# Altium integrated library NSC Logic Translator.IntLib: 51 symbols (part 1 of 2)
Pins are listed as number, name and electrical type; pins without a type are passive.

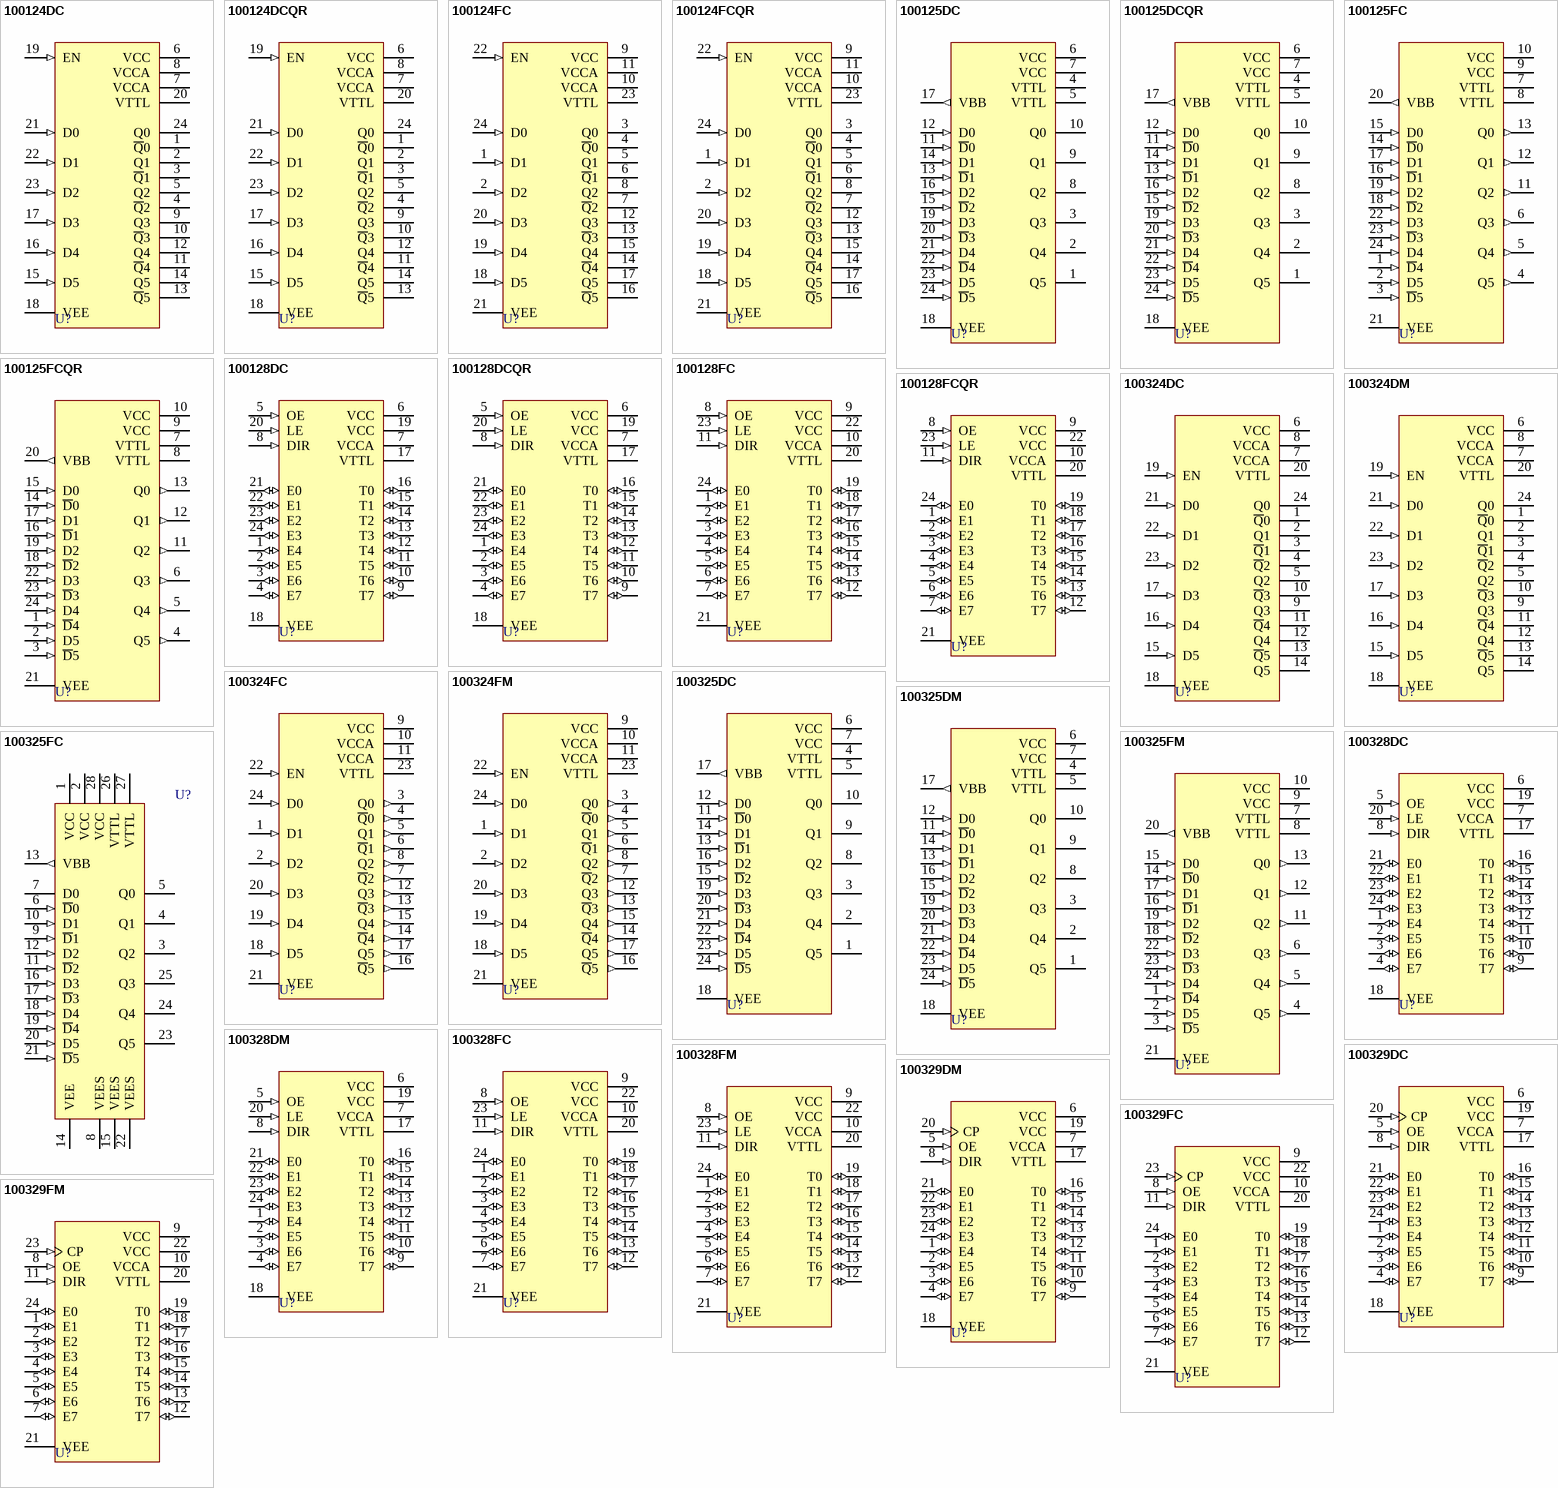
[diagram p0: symbols 100124DC to 100329FM]

## 100124DC
designator U?
Hex TTL-to-ECL Translator; Published: 15-Apr-2002; LatestRevisionDate: 06-Jun-2005; LatestRevisionNote: Stylized 3D Model Added.; DatasheetVersion: 1990; PackageVersion: 2000; PackageReference: J24E; Publisher: Altium Limited; PackageDescription: DIP; 24 Leads; Row Spacing 10.16 mm; Pitch 2.54 mm; ComponentLink1Description: Manufacturer Link; ComponentLink1URL: http://www.national.com/
footprint J24E (DIP; 24 Leads; Row Spacing 10.16 mm; Pitch 2.54 mm)
3D model J24E (DIP; 24 Leads; Row Spacing 10.16 mm; Pitch 2.54 mm)
pins: 1 ~{Q}0 (oe), 2 Q1 (oe), 3 ~{Q}1 (oe), 4 ~{Q}2 (oe), 5 Q2 (oe), 6 VCC (power), 7 VCCA (power), 8 VCCA (power), 9 Q3 (oe), 10 ~{Q}3 (oe), 11 ~{Q}4 (oe), 12 Q4 (oe), 13 ~{Q}5 (oe), 14 Q5 (oe), 15 D5 (in), 16 D4 (in), 17 D3 (in), 18 VEE (power), 19 EN (in), 20 VTTL (power), 21 D0 (in), 22 D1 (in), 23 D2 (in), 24 Q0 (oe)

## 100124DCQR
designator U?
Hex TTL-to-ECL Translator; Published: 15-Apr-2002; LatestRevisionDate: 06-Jun-2005; LatestRevisionNote: Stylized 3D Model Added.; DatasheetVersion: 1990; PackageVersion: 2000; PackageReference: J24E; Publisher: Altium Limited; PackageDescription: DIP; 24 Leads; Row Spacing 10.16 mm; Pitch 2.54 mm; ComponentLink1Description: Manufacturer Link; ComponentLink1URL: http://www.national.com/
footprint J24E (DIP; 24 Leads; Row Spacing 10.16 mm; Pitch 2.54 mm)
3D model J24E (DIP; 24 Leads; Row Spacing 10.16 mm; Pitch 2.54 mm)
pins: 1 ~{Q}0 (oe), 2 Q1 (oe), 3 ~{Q}1 (oe), 4 ~{Q}2 (oe), 5 Q2 (oe), 6 VCC (power), 7 VCCA (power), 8 VCCA (power), 9 Q3 (oe), 10 ~{Q}3 (oe), 11 ~{Q}4 (oe), 12 Q4 (oe), 13 ~{Q}5 (oe), 14 Q5 (oe), 15 D5 (in), 16 D4 (in), 17 D3 (in), 18 VEE (power), 19 EN (in), 20 VTTL (power), 21 D0 (in), 22 D1 (in), 23 D2 (in), 24 Q0 (oe)

## 100124FC
designator U?
Hex TTL-to-ECL Translator; Published: 15-Apr-2002; LatestRevisionDate: 13-Apr-2006; LatestRevisionNote: IPC-7351 Footprint Added.; DatasheetVersion: 1990; PackageVersion: Aug-1990; PackageReference: W24B; Publisher: Altium Limited; PackageDescription: 100-Pin Ceramic Quad Flat Pack 1.27 mm Pitch; ComponentLink1Description: Manufacturer Link; ComponentLink1URL: http://www.national.com/
footprint W24B_N (CQFP, 24-Leads, Body 10x10mm; Pitch 1.27mm, Gullwing Leadform, IPC Medium Density)
footprint W24B_L (CQFP, 24-Leads, Body 10x10mm; Pitch 1.27mm, Gullwing Leadform, IPC High Density)
footprint W24B_M (CQFP, 24-Leads, Body 10x10mm; Pitch 1.27mm, Gullwing Leadform, IPC Low Density)
3D model 100124-W24B (100-Pin Ceramic Quad Flat Pack 1.27 mm Pitch)
pins: 1 D1 (in), 2 D2 (in), 3 Q0 (oe), 4 ~{Q}0 (oe), 5 Q1 (oe), 6 ~{Q}1 (oe), 7 ~{Q}2 (oe), 8 Q2 (oe), 9 VCC (power), 10 VCCA (power), 11 VCCA (power), 12 Q3 (oe), 13 ~{Q}3 (oe), 14 ~{Q}4 (oe), 15 Q4 (oe), 16 ~{Q}5 (oe), 17 Q5 (oe), 18 D5 (in), 19 D4 (in), 20 D3 (in), 21 VEE (power), 22 EN (in), 23 VTTL (power), 24 D0 (in)

## 100124FCQR
designator U?
Hex TTL-to-ECL Translator; Published: 15-Apr-2002; LatestRevisionDate: 13-Apr-2006; LatestRevisionNote: IPC-7351 Footprint Added.; DatasheetVersion: 1990; PackageVersion: Aug-1990; PackageReference: W24B; Publisher: Altium Limited; PackageDescription: 100-Pin Ceramic Quad Flat Pack 1.27 mm Pitch; ComponentLink1Description: Manufacturer Link; ComponentLink1URL: http://www.national.com/
footprint W24B_N (CQFP, 24-Leads, Body 10x10mm; Pitch 1.27mm, Gullwing Leadform, IPC Medium Density)
footprint W24B_L (CQFP, 24-Leads, Body 10x10mm; Pitch 1.27mm, Gullwing Leadform, IPC High Density)
footprint W24B_M (CQFP, 24-Leads, Body 10x10mm; Pitch 1.27mm, Gullwing Leadform, IPC Low Density)
3D model 100124-W24B (100-Pin Ceramic Quad Flat Pack 1.27 mm Pitch)
pins: 1 D1 (in), 2 D2 (in), 3 Q0 (oe), 4 ~{Q}0 (oe), 5 Q1 (oe), 6 ~{Q}1 (oe), 7 ~{Q}2 (oe), 8 Q2 (oe), 9 VCC (power), 10 VCCA (power), 11 VCCA (power), 12 Q3 (oe), 13 ~{Q}3 (oe), 14 ~{Q}4 (oe), 15 Q4 (oe), 16 ~{Q}5 (oe), 17 Q5 (oe), 18 D5 (in), 19 D4 (in), 20 D3 (in), 21 VEE (power), 22 EN (in), 23 VTTL (power), 24 D0 (in)

## 100125DC
designator U?
Hex ECL-to-TTL  Translator; Published: 15-Apr-2002; LatestRevisionDate: 06-Jun-2005; LatestRevisionNote: Stylized 3D Model Added.; DatasheetVersion: 1990; PackageVersion: 2000; PackageReference: J24E; Publisher: Altium Limited; PackageDescription: DIP; 24 Leads; Row Spacing 10.16 mm; Pitch 2.54 mm; ComponentLink1Description: Manufacturer Link; ComponentLink1URL: http://www.national.com/
footprint J24E (DIP; 24 Leads; Row Spacing 10.16 mm; Pitch 2.54 mm)
3D model J24E (DIP; 24 Leads; Row Spacing 10.16 mm; Pitch 2.54 mm)
pins: 1 Q5 (oe), 2 Q4 (oe), 3 Q3 (oe), 4 VTTL (power), 5 VTTL (power), 6 VCC (power), 7 VCC (power), 8 Q2 (oe), 9 Q1 (oe), 10 Q0 (oe), 11 ~{D}0 (in), 12 D0 (in), 13 ~{D}1 (in), 14 D1 (in), 15 ~{D}2 (in), 16 D2 (in), 17 VBB (out), 18 VEE (power), 19 D3 (in), 20 ~{D}3 (in), 21 D4 (in), 22 ~{D}4 (in), 23 D5 (in), 24 ~{D}5 (in)

## 100125DCQR
designator U?
Hex ECL-to-TTL  Translator; Published: 15-Apr-2002; LatestRevisionDate: 06-Jun-2005; LatestRevisionNote: Stylized 3D Model Added.; DatasheetVersion: 1990; PackageVersion: 2000; PackageReference: J24E; Publisher: Altium Limited; PackageDescription: DIP; 24 Leads; Row Spacing 10.16 mm; Pitch 2.54 mm; ComponentLink1Description: Manufacturer Link; ComponentLink1URL: http://www.national.com/
footprint J24E (DIP; 24 Leads; Row Spacing 10.16 mm; Pitch 2.54 mm)
3D model J24E (DIP; 24 Leads; Row Spacing 10.16 mm; Pitch 2.54 mm)
pins: 1 Q5 (oe), 2 Q4 (oe), 3 Q3 (oe), 4 VTTL (power), 5 VTTL (power), 6 VCC (power), 7 VCC (power), 8 Q2 (oe), 9 Q1 (oe), 10 Q0 (oe), 11 ~{D}0 (in), 12 D0 (in), 13 ~{D}1 (in), 14 D1 (in), 15 ~{D}2 (in), 16 D2 (in), 17 VBB (out), 18 VEE (power), 19 D3 (in), 20 ~{D}3 (in), 21 D4 (in), 22 ~{D}4 (in), 23 D5 (in), 24 ~{D}5 (in)

## 100125FC
designator U?
Hex ECL-to-TTL  Translator; Published: 15-Apr-2002; LatestRevisionDate: 13-Apr-2006; LatestRevisionNote: IPC-7351 Footprint Added.; DatasheetVersion: 1990; PackageVersion: Aug-1990; PackageReference: W24B; Publisher: Altium Limited; PackageDescription: 100-Pin Ceramic Quad Flat Pack 1.27 mm Pitch; ComponentLink1Description: Manufacturer Link; ComponentLink1URL: http://www.national.com/
footprint W24B_N (CQFP, 24-Leads, Body 10x10mm; Pitch 1.27mm, Gullwing Leadform, IPC Medium Density)
footprint W24B_L (CQFP, 24-Leads, Body 10x10mm; Pitch 1.27mm, Gullwing Leadform, IPC High Density)
footprint W24B_M (CQFP, 24-Leads, Body 10x10mm; Pitch 1.27mm, Gullwing Leadform, IPC Low Density)
3D model 100125-W24B (100-Pin Ceramic Quad Flat Pack 1.27 mm Pitch)
pins: 1 ~{D}4 (in), 2 D5 (in), 3 ~{D}5 (in), 4 Q5 (out), 5 Q4 (out), 6 Q3 (out), 7 VTTL (power), 8 VTTL (power), 9 VCC (power), 10 VCC (power), 11 Q2 (out), 12 Q1 (out), 13 Q0 (out), 14 ~{D}0 (in), 15 D0 (in), 16 ~{D}1 (in), 17 D1 (in), 18 ~{D}2 (in), 19 D2 (in), 20 VBB (out), 21 VEE (power), 22 D3 (in), 23 ~{D}3 (in), 24 D4 (in)

## 100125FCQR
designator U?
Hex ECL-to-TTL  Translator; Published: 15-Apr-2002; LatestRevisionDate: 13-Apr-2006; LatestRevisionNote: IPC-7351 Footprint Added.; DatasheetVersion: 1990; PackageVersion: Aug-1990; PackageReference: W24B; Publisher: Altium Limited; PackageDescription: 100-Pin Ceramic Quad Flat Pack 1.27 mm Pitch; ComponentLink1Description: Manufacturer Link; ComponentLink1URL: http://www.national.com/
footprint W24B_N (CQFP, 24-Leads, Body 10x10mm; Pitch 1.27mm, Gullwing Leadform, IPC Medium Density)
footprint W24B_L (CQFP, 24-Leads, Body 10x10mm; Pitch 1.27mm, Gullwing Leadform, IPC High Density)
footprint W24B_M (CQFP, 24-Leads, Body 10x10mm; Pitch 1.27mm, Gullwing Leadform, IPC Low Density)
3D model 100125-W24B (100-Pin Ceramic Quad Flat Pack 1.27 mm Pitch)
pins: 1 ~{D}4 (in), 2 D5 (in), 3 ~{D}5 (in), 4 Q5 (out), 5 Q4 (out), 6 Q3 (out), 7 VTTL (power), 8 VTTL (power), 9 VCC (power), 10 VCC (power), 11 Q2 (out), 12 Q1 (out), 13 Q0 (out), 14 ~{D}0 (in), 15 D0 (in), 16 ~{D}1 (in), 17 D1 (in), 18 ~{D}2 (in), 19 D2 (in), 20 VBB (out), 21 VEE (power), 22 D3 (in), 23 ~{D}3 (in), 24 D4 (in)

## 100128DC
designator U?
ECL/TTL Bi-Directional Translator; Published: 15-Apr-2002; LatestRevisionDate: 06-Jun-2005; LatestRevisionNote: Stylized 3D Model Added.; DatasheetVersion: 1990; PackageVersion: 2000; PackageReference: J24E; Publisher: Altium Limited; PackageDescription: DIP; 24 Leads; Row Spacing 10.16 mm; Pitch 2.54 mm; ComponentLink1Description: Manufacturer Link; ComponentLink1URL: http://www.national.com/
footprint J24E (DIP; 24 Leads; Row Spacing 10.16 mm; Pitch 2.54 mm)
3D model J24E (DIP; 24 Leads; Row Spacing 10.16 mm; Pitch 2.54 mm)
pins: 1 E4 (io), 2 E5 (io), 3 E6 (io), 4 E7 (io), 5 OE (in), 6 VCC (power), 7 VCCA (power), 8 DIR (in), 9 T7 (io), 10 T6 (io), 11 T5 (io), 12 T4 (io), 13 T3 (io), 14 T2 (io), 15 T1 (io), 16 T0 (io), 17 VTTL (power), 18 VEE (power), 19 VCC (power), 20 LE (in), 21 E0 (io), 22 E1 (io), 23 E2 (io), 24 E3 (io)

## 100128DCQR
designator U?
ECL/TTL Bi-Directional Translator; Published: 15-Apr-2002; LatestRevisionDate: 06-Jun-2005; LatestRevisionNote: Stylized 3D Model Added.; DatasheetVersion: 1990; PackageVersion: 2000; PackageReference: J24E; Publisher: Altium Limited; PackageDescription: DIP; 24 Leads; Row Spacing 10.16 mm; Pitch 2.54 mm; ComponentLink1Description: Manufacturer Link; ComponentLink1URL: http://www.national.com/
footprint J24E (DIP; 24 Leads; Row Spacing 10.16 mm; Pitch 2.54 mm)
3D model J24E (DIP; 24 Leads; Row Spacing 10.16 mm; Pitch 2.54 mm)
pins: 1 E4 (io), 2 E5 (io), 3 E6 (io), 4 E7 (io), 5 OE (in), 6 VCC (power), 7 VCCA (power), 8 DIR (in), 9 T7 (io), 10 T6 (io), 11 T5 (io), 12 T4 (io), 13 T3 (io), 14 T2 (io), 15 T1 (io), 16 T0 (io), 17 VTTL (power), 18 VEE (power), 19 VCC (power), 20 LE (in), 21 E0 (io), 22 E1 (io), 23 E2 (io), 24 E3 (io)

## 100128FC
designator U?
ECL/TTL Bi-Directional Translator; Published: 15-Apr-2002; LatestRevisionDate: 13-Apr-2006; LatestRevisionNote: IPC-7351 Footprint Added.; DatasheetVersion: 1990; PackageVersion: Aug-1990; PackageReference: W24B; Publisher: Altium Limited; PackageDescription: 100-Pin Ceramic Quad Flat Pack 1.27 mm Pitch; ComponentLink1Description: Manufacturer Link; ComponentLink1URL: http://www.national.com/
footprint W24B_N (CQFP, 24-Leads, Body 10x10mm; Pitch 1.27mm, Gullwing Leadform, IPC Medium Density)
footprint W24B_L (CQFP, 24-Leads, Body 10x10mm; Pitch 1.27mm, Gullwing Leadform, IPC High Density)
footprint W24B_M (CQFP, 24-Leads, Body 10x10mm; Pitch 1.27mm, Gullwing Leadform, IPC Low Density)
3D model 100128-W24B (100-Pin Ceramic Quad Flat Pack 1.27 mm Pitch)
pins: 1 E1 (io), 2 E2 (io), 3 E3 (io), 4 E4 (io), 5 E5 (io), 6 E6 (io), 7 E7 (io), 8 OE (in), 9 VCC (power), 10 VCCA (power), 11 DIR (in), 12 T7 (io), 13 T6 (io), 14 T5 (io), 15 T4 (io), 16 T3 (io), 17 T2 (io), 18 T1 (io), 19 T0 (io), 20 VTTL (power), 21 VEE (power), 22 VCC (power), 23 LE (in), 24 E0 (io)

## 100128FCQR
designator U?
ECL/TTL Bi-Directional Translator; Published: 15-Apr-2002; LatestRevisionDate: 13-Apr-2006; LatestRevisionNote: IPC-7351 Footprint Added.; DatasheetVersion: 1990; PackageVersion: Aug-1990; PackageReference: W24B; Publisher: Altium Limited; PackageDescription: 100-Pin Ceramic Quad Flat Pack 1.27 mm Pitch; ComponentLink1Description: Manufacturer Link; ComponentLink1URL: http://www.national.com/
footprint W24B_N (CQFP, 24-Leads, Body 10x10mm; Pitch 1.27mm, Gullwing Leadform, IPC Medium Density)
footprint W24B_L (CQFP, 24-Leads, Body 10x10mm; Pitch 1.27mm, Gullwing Leadform, IPC High Density)
footprint W24B_M (CQFP, 24-Leads, Body 10x10mm; Pitch 1.27mm, Gullwing Leadform, IPC Low Density)
3D model 100128-W24B (100-Pin Ceramic Quad Flat Pack 1.27 mm Pitch)
pins: 1 E1 (io), 2 E2 (io), 3 E3 (io), 4 E4 (io), 5 E5 (io), 6 E6 (io), 7 E7 (io), 8 OE (in), 9 VCC (power), 10 VCCA (power), 11 DIR (in), 12 T7 (io), 13 T6 (io), 14 T5 (io), 15 T4 (io), 16 T3 (io), 17 T2 (io), 18 T1 (io), 19 T0 (io), 20 VTTL (power), 21 VEE (power), 22 VCC (power), 23 LE (in), 24 E0 (io)

## 100324DC
designator U?
Low Power Hex TTL-to-ECL Translator; Published: 15-Apr-2002; LatestRevisionDate: 06-Jun-2005; LatestRevisionNote: Stylized 3D Model Added.; DatasheetVersion: Jul-1989; PackageVersion: 2000; PackageReference: J24E; Publisher: Altium Limited; PackageDescription: DIP; 24 Leads; Row Spacing 10.16 mm; Pitch 2.54 mm; ComponentLink1Description: Manufacturer Link; ComponentLink1URL: http://www.national.com/; ComponentLink2Description: Datasheet; ComponentLink2URL: http://www.national.com/ds.cgi/10/100324.pdf
footprint J24E (DIP; 24 Leads; Row Spacing 10.16 mm; Pitch 2.54 mm)
3D model J24E (DIP; 24 Leads; Row Spacing 10.16 mm; Pitch 2.54 mm)
pins: 1 ~{Q}0 (oe), 2 Q1 (oe), 3 ~{Q}1 (oe), 4 ~{Q}2 (oe), 5 Q2 (oe), 6 VCC (power), 7 VCCA (power), 8 VCCA (power), 9 Q3 (oe), 10 ~{Q}3 (oe), 11 ~{Q}4 (oe), 12 Q4 (oe), 13 ~{Q}5 (oe), 14 Q5 (oe), 15 D5 (in), 16 D4 (in), 17 D3 (in), 18 VEE (power), 19 EN (in), 20 VTTL (power), 21 D0 (in), 22 D1 (in), 23 D2 (in), 24 Q0 (oe)

## 100324DM
designator U?
Low Power Hex TTL-to-ECL Translator; Published: 15-Apr-2002; LatestRevisionDate: 06-Jun-2005; LatestRevisionNote: Stylized 3D Model Added.; DatasheetVersion: Jul-1989; PackageVersion: 2000; PackageReference: J24E; Publisher: Altium Limited; PackageDescription: DIP; 24 Leads; Row Spacing 10.16 mm; Pitch 2.54 mm; ComponentLink1Description: Manufacturer Link; ComponentLink1URL: http://www.national.com/; ComponentLink2Description: Datasheet; ComponentLink2URL: http://www.national.com/ds.cgi/10/100324.pdf
footprint J24E (DIP; 24 Leads; Row Spacing 10.16 mm; Pitch 2.54 mm)
3D model J24E (DIP; 24 Leads; Row Spacing 10.16 mm; Pitch 2.54 mm)
pins: 1 ~{Q}0 (oe), 2 Q1 (oe), 3 ~{Q}1 (oe), 4 ~{Q}2 (oe), 5 Q2 (oe), 6 VCC (power), 7 VCCA (power), 8 VCCA (power), 9 Q3 (oe), 10 ~{Q}3 (oe), 11 ~{Q}4 (oe), 12 Q4 (oe), 13 ~{Q}5 (oe), 14 Q5 (oe), 15 D5 (in), 16 D4 (in), 17 D3 (in), 18 VEE (power), 19 EN (in), 20 VTTL (power), 21 D0 (in), 22 D1 (in), 23 D2 (in), 24 Q0 (oe)

## 100324FC
designator U?
Low Power Hex TTL-to-ECL Translator; ComponentAvailability: Obsolete; Published: 15-Apr-2002; LatestRevisionDate: 13-Apr-2006; LatestRevisionNote: IPC-7351 Footprint Added.; DatasheetVersion: Jul-1989; PackageVersion: Aug-1990; PackageReference: W24B; Publisher: Altium Limited; PackageDescription: 100-Pin Ceramic Quad Flat Pack 1.27 mm Pitch; ComponentLink1Description: Manufacturer Link; ComponentLink1URL: http://www.national.com/; ComponentLink2Description: Datasheet; ComponentLink2URL: http://www.national.com/ds.cgi/10/100324.pdf; ComponentLink3Description: Discontinuation Notice; ComponentLink3URL: http://www.national.com/obs/obsolescence.txt
footprint W24B_N (CQFP, 24-Leads, Body 10x10mm; Pitch 1.27mm, Gullwing Leadform, IPC Medium Density)
footprint W24B_L (CQFP, 24-Leads, Body 10x10mm; Pitch 1.27mm, Gullwing Leadform, IPC High Density)
footprint W24B_M (CQFP, 24-Leads, Body 10x10mm; Pitch 1.27mm, Gullwing Leadform, IPC Low Density)
3D model 100324-W24B (100-Pin Ceramic Quad Flat Pack 1.27 mm Pitch)
pins: 1 D1 (in), 2 D2 (in), 3 Q0 (out), 4 ~{Q}0 (out), 5 Q1 (out), 6 ~{Q}1 (out), 7 ~{Q}2 (out), 8 Q2 (out), 9 VCC (power), 10 VCCA (power), 11 VCCA (power), 12 Q3 (out), 13 ~{Q}3 (out), 14 ~{Q}4 (out), 15 Q4 (out), 16 ~{Q}5 (out), 17 Q5 (out), 18 D5 (in), 19 D4 (in), 20 D3 (in), 21 VEE (power), 22 EN (in), 23 VTTL (power), 24 D0 (in)

## 100324FM
designator U?
Low Power Hex TTL-to-ECL Translator; Published: 15-Apr-2002; LatestRevisionDate: 13-Apr-2006; LatestRevisionNote: IPC-7351 Footprint Added.; DatasheetVersion: Jul-1989; PackageVersion: Aug-1990; PackageReference: W24B; Publisher: Altium Limited; PackageDescription: 100-Pin Ceramic Quad Flat Pack 1.27 mm Pitch; ComponentLink1Description: Manufacturer Link; ComponentLink1URL: http://www.national.com/; ComponentLink2Description: Datasheet; ComponentLink2URL: http://www.national.com/ds.cgi/10/100324.pdf
footprint W24B_N (CQFP, 24-Leads, Body 10x10mm; Pitch 1.27mm, Gullwing Leadform, IPC Medium Density)
footprint W24B_L (CQFP, 24-Leads, Body 10x10mm; Pitch 1.27mm, Gullwing Leadform, IPC High Density)
footprint W24B_M (CQFP, 24-Leads, Body 10x10mm; Pitch 1.27mm, Gullwing Leadform, IPC Low Density)
3D model 100324-W24B (100-Pin Ceramic Quad Flat Pack 1.27 mm Pitch)
pins: 1 D1 (in), 2 D2 (in), 3 Q0 (out), 4 ~{Q}0 (out), 5 Q1 (out), 6 ~{Q}1 (out), 7 ~{Q}2 (out), 8 Q2 (out), 9 VCC (power), 10 VCCA (power), 11 VCCA (power), 12 Q3 (out), 13 ~{Q}3 (out), 14 ~{Q}4 (out), 15 Q4 (out), 16 ~{Q}5 (out), 17 Q5 (out), 18 D5 (in), 19 D4 (in), 20 D3 (in), 21 VEE (power), 22 EN (in), 23 VTTL (power), 24 D0 (in)

## 100325DC
designator U?
Low Power Hex ECL-to-TTL Translator; Published: 15-Apr-2002; LatestRevisionDate: 06-Jun-2005; LatestRevisionNote: Stylized 3D Model Added.; DatasheetVersion: Jul-1989; PackageVersion: 2000; PackageReference: J24E; Publisher: Altium Limited; PackageDescription: DIP; 24 Leads; Row Spacing 10.16 mm; Pitch 2.54 mm; ComponentLink1Description: Manufacturer Link; ComponentLink1URL: http://www.national.com/; ComponentLink2Description: Datasheet; ComponentLink2URL: http://www.national.com/ds.cgi/10/100325.pdf
footprint J24E (DIP; 24 Leads; Row Spacing 10.16 mm; Pitch 2.54 mm)
3D model J24E (DIP; 24 Leads; Row Spacing 10.16 mm; Pitch 2.54 mm)
pins: 1 Q5 (oe), 2 Q4 (oe), 3 Q3 (oe), 4 VTTL (power), 5 VTTL (power), 6 VCC (power), 7 VCC (power), 8 Q2 (oe), 9 Q1 (oe), 10 Q0 (oe), 11 ~{D}0 (in), 12 D0 (in), 13 ~{D}1 (in), 14 D1 (in), 15 ~{D}2 (in), 16 D2 (in), 17 VBB (out), 18 VEE (power), 19 D3 (in), 20 ~{D}3 (in), 21 D4 (in), 22 ~{D}4 (in), 23 D5 (in), 24 ~{D}5 (in)

## 100325DM
designator U?
Low Power Hex ECL-to-TTL Translator; Published: 15-Apr-2002; LatestRevisionDate: 06-Jun-2005; LatestRevisionNote: Stylized 3D Model Added.; DatasheetVersion: Jul-1989; PackageVersion: 2000; PackageReference: J24E; Publisher: Altium Limited; PackageDescription: DIP; 24 Leads; Row Spacing 10.16 mm; Pitch 2.54 mm; ComponentLink1Description: Manufacturer Link; ComponentLink1URL: http://www.national.com/; ComponentLink2Description: Datasheet; ComponentLink2URL: http://www.national.com/ds.cgi/10/100325.pdf
footprint J24E (DIP; 24 Leads; Row Spacing 10.16 mm; Pitch 2.54 mm)
3D model J24E (DIP; 24 Leads; Row Spacing 10.16 mm; Pitch 2.54 mm)
pins: 1 Q5 (oe), 2 Q4 (oe), 3 Q3 (oe), 4 VTTL (power), 5 VTTL (power), 6 VCC (power), 7 VCC (power), 8 Q2 (oe), 9 Q1 (oe), 10 Q0 (oe), 11 ~{D}0 (in), 12 D0 (in), 13 ~{D}1 (in), 14 D1 (in), 15 ~{D}2 (in), 16 D2 (in), 17 VBB (out), 18 VEE (power), 19 D3 (in), 20 ~{D}3 (in), 21 D4 (in), 22 ~{D}4 (in), 23 D5 (in), 24 ~{D}5 (in)

## 100325FC
designator U?
Low Power Hex ECL-to-TTL Translator; ComponentAvailability: Obsolete; Published: 15-Apr-2002; LatestRevisionDate: 13-Apr-2006; LatestRevisionNote: IPC-7351 Footprint Added.; DatasheetVersion: Jul-1989; PackageVersion: 2000; PackageReference: V28A; Publisher: Altium Limited; PackageDescription: 28-Pin Leaded Chip Carrier 1.27 mm Pitch; Code_IPC: PLCC-28; ComponentLink1Description: Manufacturer Link; ComponentLink1URL: http://www.national.com/; ComponentLink2Description: Datasheet; ComponentLink2URL: http://www.national.com/ds.cgi/10/100325.pdf; ComponentLink3Description: Discontinuation Notice; ComponentLink3URL: http://www.national.com/obs/obsolescence.txt
footprint V28A_N (Leaded Chip Carrier, 28-Leads, Body 11.5x11.5mm, Pitch 1.27mm, IPC Medium Density)
footprint V28A_L (Leaded Chip Carrier, 28-Leads, Body 11.5x11.5mm, Pitch 1.27mm, IPC High Density)
footprint V28A_M (Leaded Chip Carrier, 28-Leads, Body 11.5x11.5mm, Pitch 1.27mm, IPC Low Density)
3D model 100325-V28A (28-Pin Leaded Chip Carrier 1.27 mm Pitch)
pins: 1 VCC (power), 2 VCC (power), 3 Q2 (oe), 4 Q1 (oe), 5 Q0 (oe), 6 ~{D}0 (in), 7 D0 (power), 8 VEES (power), 9 ~{D}1 (in), 10 D1 (in), 11 ~{D}2 (in), 12 D2 (in), 13 VBB (out), 14 VEE (power), 15 VEES (power), 16 D3 (in), 17 ~{D}3 (in), 18 D4 (in), 19 ~{D}4 (in), 20 D5 (in), 21 ~{D}5 (in), 22 VEES (power), 23 Q5 (oe), 24 Q4 (oe), 25 Q3 (oe), 26 VTTL (power), 27 VTTL (power), 28 VCC (power)

## 100325FM
designator U?
Low Power Hex ECL-to-TTL Translator; Published: 15-Apr-2002; LatestRevisionDate: 13-Apr-2006; LatestRevisionNote: IPC-7351 Footprint Added.; DatasheetVersion: Jul-1989; PackageVersion: Aug-1990; PackageReference: W24B; Publisher: Altium Limited; PackageDescription: 100-Pin Ceramic Quad Flat Pack 1.27 mm Pitch; ComponentLink1Description: Manufacturer Link; ComponentLink1URL: http://www.national.com/; ComponentLink2Description: Datasheet; ComponentLink2URL: http://www.national.com/ds.cgi/10/100325.pdf
footprint W24B_N (CQFP, 24-Leads, Body 10x10mm; Pitch 1.27mm, Gullwing Leadform, IPC Medium Density)
footprint W24B_L (CQFP, 24-Leads, Body 10x10mm; Pitch 1.27mm, Gullwing Leadform, IPC High Density)
footprint W24B_M (CQFP, 24-Leads, Body 10x10mm; Pitch 1.27mm, Gullwing Leadform, IPC Low Density)
3D model 100325-W24B (100-Pin Ceramic Quad Flat Pack 1.27 mm Pitch)
pins: 1 ~{D}4 (in), 2 D5 (in), 3 ~{D}5 (in), 4 Q5 (out), 5 Q4 (out), 6 Q3 (out), 7 VTTL (power), 8 VTTL (power), 9 VCC (power), 10 VCC (power), 11 Q2 (out), 12 Q1 (out), 13 Q0 (out), 14 ~{D}0 (in), 15 D0 (in), 16 ~{D}1 (in), 17 D1 (in), 18 ~{D}2 (in), 19 D2 (in), 20 VBB (out), 21 VEE (power), 22 D3 (in), 23 ~{D}3 (in), 24 D4 (in)

## 100328DC
designator U?
Low Power Octal ECL/TTL BI-Directional Translator with Latch; Published: 15-Apr-2002; LatestRevisionDate: 06-Jun-2005; LatestRevisionNote: Stylized 3D Model Added.; DatasheetVersion: Aug-1990; PackageVersion: 2000; PackageReference: J24E; Publisher: Altium Limited; PackageDescription: DIP; 24 Leads; Row Spacing 10.16 mm; Pitch 2.54 mm; ComponentLink1Description: Manufacturer Link; ComponentLink1URL: http://www.national.com/; ComponentLink2Description: Datasheet; ComponentLink2URL: http://www.national.com/ds.cgi/10/100328.pdf
footprint J24E (DIP; 24 Leads; Row Spacing 10.16 mm; Pitch 2.54 mm)
3D model J24E (DIP; 24 Leads; Row Spacing 10.16 mm; Pitch 2.54 mm)
pins: 1 E4 (io), 2 E5 (io), 3 E6 (io), 4 E7 (io), 5 OE (in), 6 VCC (power), 7 VCCA (power), 8 DIR (in), 9 T7 (io), 10 T6 (io), 11 T5 (io), 12 T4 (io), 13 T3 (io), 14 T2 (io), 15 T1 (io), 16 T0 (io), 17 VTTL (power), 18 VEE (power), 19 VCC (power), 20 LE (in), 21 E0 (io), 22 E1 (io), 23 E2 (io), 24 E3 (io)

## 100328DM
designator U?
Low Power Octal ECL/TTL BI-Directional Translator with Latch; Published: 15-Apr-2002; LatestRevisionDate: 06-Jun-2005; LatestRevisionNote: Stylized 3D Model Added.; DatasheetVersion: Aug-1990; PackageVersion: 2000; PackageReference: J24E; Publisher: Altium Limited; PackageDescription: DIP; 24 Leads; Row Spacing 10.16 mm; Pitch 2.54 mm; ComponentLink1Description: Manufacturer Link; ComponentLink1URL: http://www.national.com/; ComponentLink2Description: Datasheet; ComponentLink2URL: http://www.national.com/ds.cgi/10/100328.pdf
footprint J24E (DIP; 24 Leads; Row Spacing 10.16 mm; Pitch 2.54 mm)
3D model J24E (DIP; 24 Leads; Row Spacing 10.16 mm; Pitch 2.54 mm)
pins: 1 E4 (io), 2 E5 (io), 3 E6 (io), 4 E7 (io), 5 OE (in), 6 VCC (power), 7 VCCA (power), 8 DIR (in), 9 T7 (io), 10 T6 (io), 11 T5 (io), 12 T4 (io), 13 T3 (io), 14 T2 (io), 15 T1 (io), 16 T0 (io), 17 VTTL (power), 18 VEE (power), 19 VCC (power), 20 LE (in), 21 E0 (io), 22 E1 (io), 23 E2 (io), 24 E3 (io)

## 100328FC
designator U?
Low Power Octal ECL/TTL BI-Directional Translator with  Latch; ComponentAvailability: Obsolete; Published: 15-Apr-2002; LatestRevisionDate: 13-Apr-2006; LatestRevisionNote: IPC-7351 Footprint Added.; DatasheetVersion: Aug-1990; PackageVersion: Aug-1990; PackageReference: W24B; Publisher: Altium Limited; PackageDescription: 100-Pin Ceramic Quad Flat Pack 1.27 mm Pitch; ComponentLink1Description: Manufacturer Link; ComponentLink1URL: http://www.national.com/; ComponentLink2Description: Datasheet; ComponentLink2URL: http://www.national.com/ds.cgi/10/100328.pdf; ComponentLink3Description: Discontinuation Notice; ComponentLink3URL: http://www.national.com/obs/obsolescence.txt
footprint W24B_N (CQFP, 24-Leads, Body 10x10mm; Pitch 1.27mm, Gullwing Leadform, IPC Medium Density)
footprint W24B_L (CQFP, 24-Leads, Body 10x10mm; Pitch 1.27mm, Gullwing Leadform, IPC High Density)
footprint W24B_M (CQFP, 24-Leads, Body 10x10mm; Pitch 1.27mm, Gullwing Leadform, IPC Low Density)
3D model 100328-W24B (100-Pin Ceramic Quad Flat Pack 1.27 mm Pitch)
pins: 1 E1 (io), 2 E2 (io), 3 E3 (io), 4 E4 (io), 5 E5 (io), 6 E6 (io), 7 E7 (io), 8 OE (in), 9 VCC (power), 10 VCCA (power), 11 DIR (in), 12 T7 (io), 13 T6 (io), 14 T5 (io), 15 T4 (io), 16 T3 (io), 17 T2 (io), 18 T1 (io), 19 T0 (io), 20 VTTL (power), 21 VEE (power), 22 VCC (power), 23 LE (in), 24 E0 (io)

## 100328FM
designator U?
Low Power Octal ECL/TTL BI-Directional Translator with  Latch; Published: 15-Apr-2002; LatestRevisionDate: 13-Apr-2006; LatestRevisionNote: IPC-7351 Footprint Added.; DatasheetVersion: Aug-1990; PackageVersion: Aug-1990; PackageReference: W24B; Publisher: Altium Limited; PackageDescription: 100-Pin Ceramic Quad Flat Pack 1.27 mm Pitch; ComponentLink1Description: Manufacturer Link; ComponentLink1URL: http://www.national.com/; ComponentLink2Description: Datasheet; ComponentLink2URL: http://www.national.com/ds.cgi/10/100328.pdf
footprint W24B_N (CQFP, 24-Leads, Body 10x10mm; Pitch 1.27mm, Gullwing Leadform, IPC Medium Density)
footprint W24B_L (CQFP, 24-Leads, Body 10x10mm; Pitch 1.27mm, Gullwing Leadform, IPC High Density)
footprint W24B_M (CQFP, 24-Leads, Body 10x10mm; Pitch 1.27mm, Gullwing Leadform, IPC Low Density)
3D model 100328-W24B (100-Pin Ceramic Quad Flat Pack 1.27 mm Pitch)
pins: 1 E1 (io), 2 E2 (io), 3 E3 (io), 4 E4 (io), 5 E5 (io), 6 E6 (io), 7 E7 (io), 8 OE (in), 9 VCC (power), 10 VCCA (power), 11 DIR (in), 12 T7 (io), 13 T6 (io), 14 T5 (io), 15 T4 (io), 16 T3 (io), 17 T2 (io), 18 T1 (io), 19 T0 (io), 20 VTTL (power), 21 VEE (power), 22 VCC (power), 23 LE (in), 24 E0 (io)

## 100329DC
designator U?
Low Power Octal ECL/TTL Bidirectional Translator with Register; Published: 15-Apr-2002; LatestRevisionDate: 06-Jun-2005; LatestRevisionNote: Stylized 3D Model Added.; DatasheetVersion: Aug-1990; PackageVersion: 2000; PackageReference: J24E; Publisher: Altium Limited; PackageDescription: DIP; 24 Leads; Row Spacing 10.16 mm; Pitch 2.54 mm; ComponentLink1Description: Manufacturer Link; ComponentLink1URL: http://www.national.com/; ComponentLink2Description: Datasheet; ComponentLink2URL: http://www.national.com/ds.cgi/10/100329.pdf
footprint J24E (DIP; 24 Leads; Row Spacing 10.16 mm; Pitch 2.54 mm)
3D model J24E (DIP; 24 Leads; Row Spacing 10.16 mm; Pitch 2.54 mm)
pins: 1 E4 (io), 2 E5 (io), 3 E6 (io), 4 E7 (io), 5 OE (in), 6 VCC (power), 7 VCCA (power), 8 DIR (in), 9 T7 (io), 10 T6 (io), 11 T5 (io), 12 T4 (io), 13 T3 (io), 14 T2 (io), 15 T1 (io), 16 T0 (io), 17 VTTL (power), 18 VEE (power), 19 VCC (power), 20 CP (in), 21 E0 (io), 22 E1 (io), 23 E2 (io), 24 E3 (io)

## 100329DM
designator U?
Low Power Octal ECL/TTL Bidirectional Translator with Register; Published: 15-Apr-2002; LatestRevisionDate: 06-Jun-2005; LatestRevisionNote: Stylized 3D Model Added.; DatasheetVersion: Aug-1990; PackageVersion: 2000; PackageReference: J24E; Publisher: Altium Limited; PackageDescription: DIP; 24 Leads; Row Spacing 10.16 mm; Pitch 2.54 mm; ComponentLink1Description: Manufacturer Link; ComponentLink1URL: http://www.national.com/; ComponentLink2Description: Datasheet; ComponentLink2URL: http://www.national.com/ds.cgi/10/100329.pdf
footprint J24E (DIP; 24 Leads; Row Spacing 10.16 mm; Pitch 2.54 mm)
3D model J24E (DIP; 24 Leads; Row Spacing 10.16 mm; Pitch 2.54 mm)
pins: 1 E4 (io), 2 E5 (io), 3 E6 (io), 4 E7 (io), 5 OE (in), 6 VCC (power), 7 VCCA (power), 8 DIR (in), 9 T7 (io), 10 T6 (io), 11 T5 (io), 12 T4 (io), 13 T3 (io), 14 T2 (io), 15 T1 (io), 16 T0 (io), 17 VTTL (power), 18 VEE (power), 19 VCC (power), 20 CP (in), 21 E0 (io), 22 E1 (io), 23 E2 (io), 24 E3 (io)

## 100329FC
designator U?
Low Power Octal ECL/TTL Bidirectional Translator with Register; ComponentAvailability: Obsolete; Published: 15-Apr-2002; LatestRevisionDate: 13-Apr-2006; LatestRevisionNote: IPC-7351 Footprint Added.; DatasheetVersion: Aug-1990; PackageVersion: Aug-1990; PackageReference: W24B; Publisher: Altium Limited; PackageDescription: 100-Pin Ceramic Quad Flat Pack 1.27 mm Pitch; ComponentLink1Description: Manufacturer Link; ComponentLink1URL: http://www.national.com/; ComponentLink2Description: Datasheet; ComponentLink2URL: http://www.national.com/ds.cgi/10/100329.pdf; ComponentLink3Description: Discontinuation Notice; ComponentLink3URL: http://www.national.com/obs/obsolescence.txt
footprint W24B_N (CQFP, 24-Leads, Body 10x10mm; Pitch 1.27mm, Gullwing Leadform, IPC Medium Density)
footprint W24B_L (CQFP, 24-Leads, Body 10x10mm; Pitch 1.27mm, Gullwing Leadform, IPC High Density)
footprint W24B_M (CQFP, 24-Leads, Body 10x10mm; Pitch 1.27mm, Gullwing Leadform, IPC Low Density)
3D model 100329-W24B (100-Pin Ceramic Quad Flat Pack 1.27 mm Pitch)
pins: 1 E1 (io), 2 E2 (io), 3 E3 (io), 4 E4 (io), 5 E5 (io), 6 E6 (io), 7 E7 (io), 8 OE (in), 9 VCC (power), 10 VCCA (power), 11 DIR (in), 12 T7 (io), 13 T6 (io), 14 T5 (io), 15 T4 (io), 16 T3 (io), 17 T2 (io), 18 T1 (io), 19 T0 (io), 20 VTTL (power), 21 VEE (power), 22 VCC (power), 23 CP (in), 24 E0 (io)

## 100329FM
designator U?
Low Power Octal ECL/TTL Bidirectional Translator with Register; Published: 15-Apr-2002; LatestRevisionDate: 13-Apr-2006; LatestRevisionNote: IPC-7351 Footprint Added.; DatasheetVersion: Aug-1990; PackageVersion: Aug-1990; PackageReference: W24B; Publisher: Altium Limited; PackageDescription: 100-Pin Ceramic Quad Flat Pack 1.27 mm Pitch; ComponentLink1Description: Manufacturer Link; ComponentLink1URL: http://www.national.com/; ComponentLink2Description: Datasheet; ComponentLink2URL: http://www.national.com/ds.cgi/10/100329.pdf
footprint W24B_N (CQFP, 24-Leads, Body 10x10mm; Pitch 1.27mm, Gullwing Leadform, IPC Medium Density)
footprint W24B_L (CQFP, 24-Leads, Body 10x10mm; Pitch 1.27mm, Gullwing Leadform, IPC High Density)
footprint W24B_M (CQFP, 24-Leads, Body 10x10mm; Pitch 1.27mm, Gullwing Leadform, IPC Low Density)
3D model 100329-W24B (100-Pin Ceramic Quad Flat Pack 1.27 mm Pitch)
pins: 1 E1 (io), 2 E2 (io), 3 E3 (io), 4 E4 (io), 5 E5 (io), 6 E6 (io), 7 E7 (io), 8 OE (in), 9 VCC (power), 10 VCCA (power), 11 DIR (in), 12 T7 (io), 13 T6 (io), 14 T5 (io), 15 T4 (io), 16 T3 (io), 17 T2 (io), 18 T1 (io), 19 T0 (io), 20 VTTL (power), 21 VEE (power), 22 VCC (power), 23 CP (in), 24 E0 (io)

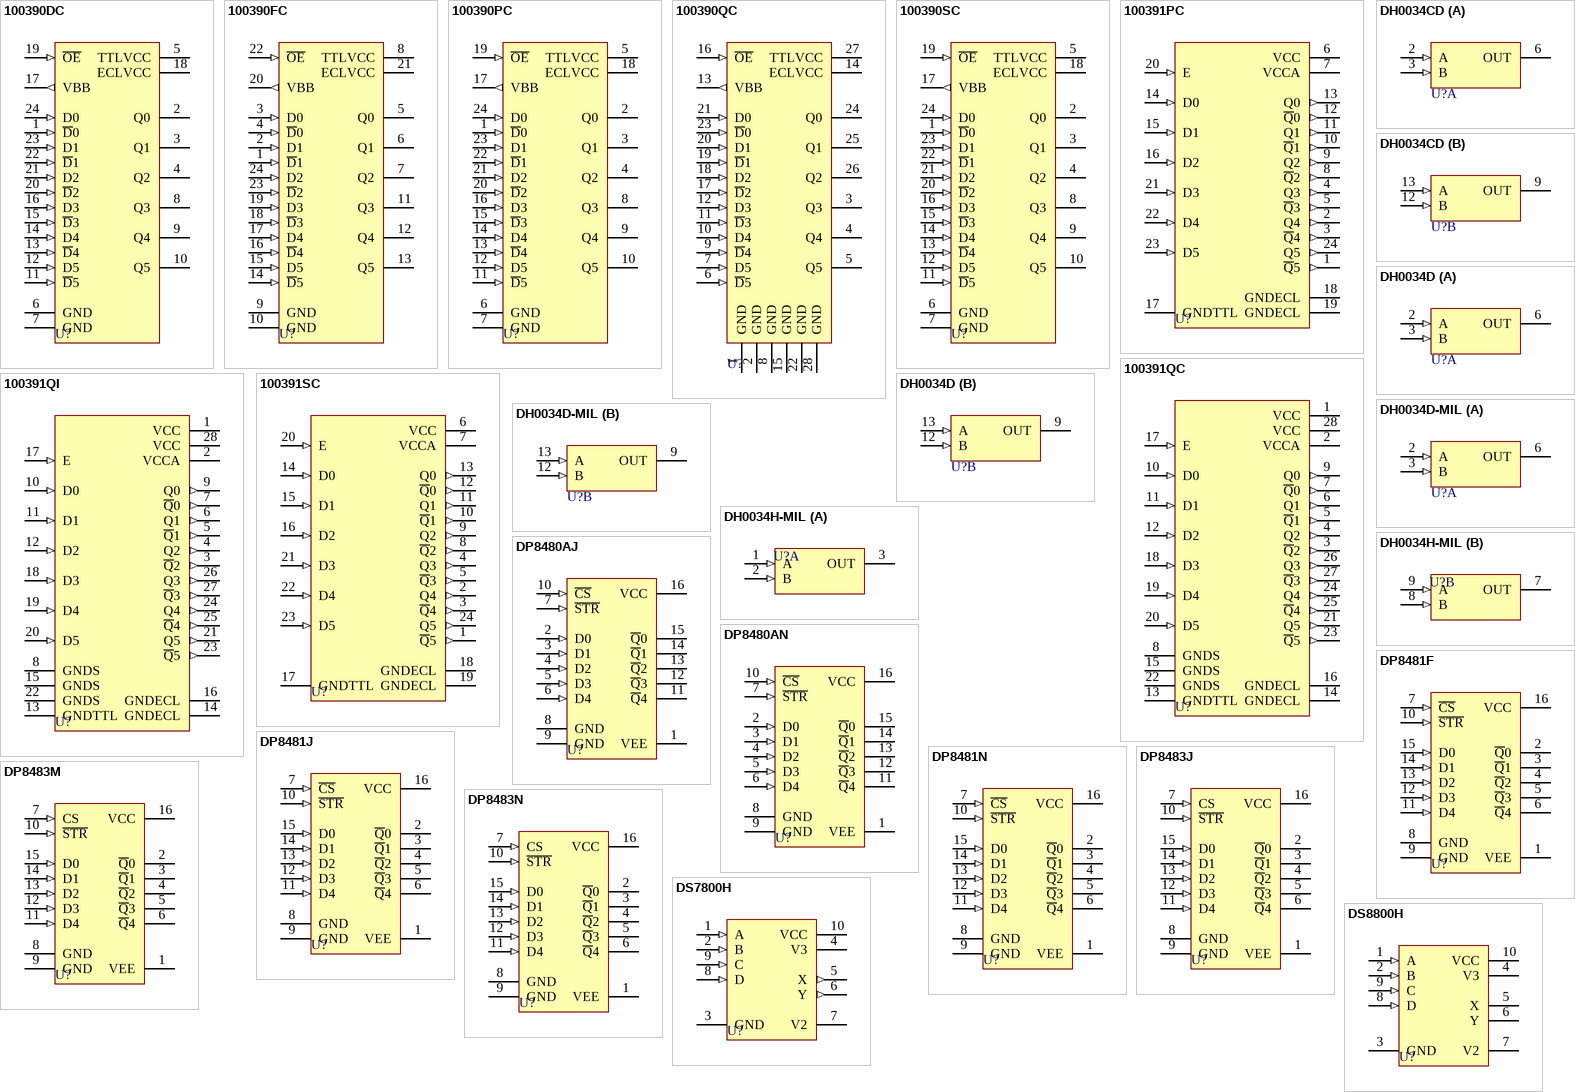
[diagram p1: symbols 100390DC to DS8800H]

## 100390DC
designator U?
Low Power Single Supply Hex ECL-to-TTL Translator; Published: 15-Apr-2002; LatestRevisionDate: 06-Jun-2005; LatestRevisionNote: Stylized 3D Model Added.; DatasheetVersion: Jul-1993; PackageVersion: 2000; PackageReference: J24E; Publisher: Altium Limited; PackageDescription: DIP; 24 Leads; Row Spacing 10.16 mm; Pitch 2.54 mm; ComponentLink1Description: Manufacturer Link; ComponentLink1URL: http://www.national.com/
footprint J24E (DIP; 24 Leads; Row Spacing 10.16 mm; Pitch 2.54 mm)
3D model J24E (DIP; 24 Leads; Row Spacing 10.16 mm; Pitch 2.54 mm)
pins: 1 ~{D}0 (in), 2 Q0 (hiz), 3 Q1 (hiz), 4 Q2 (hiz), 5 TTLVCC (power), 6 GND (power), 7 GND (power), 8 Q3 (hiz), 9 Q4 (hiz), 10 Q5 (hiz), 11 ~{D}5 (in), 12 D5 (in), 13 ~{D}4 (in), 14 D4 (in), 15 ~{D}3 (in), 16 D3 (in), 17 VBB (out), 18 ECLVCC (power), 19 ~{OE} (in), 20 ~{D}2 (in), 21 D2 (in), 22 ~{D}1 (in), 23 D1 (in), 24 D0 (in)

## 100390FC
designator U?
Low Power Single Supply Hex ECL-to-TTL Translator; Published: 15-Apr-2002; LatestRevisionDate: 13-Apr-2006; LatestRevisionNote: IPC-7351 Footprint Added.; DatasheetVersion: Jul-1993; PackageVersion: Aug-1990; PackageReference: W24B; Publisher: Altium Limited; PackageDescription: 100-Pin Ceramic Quad Flat Pack 1.27 mm Pitch; ComponentLink1Description: Manufacturer Link; ComponentLink1URL: http://www.national.com/
footprint W24B_N (CQFP, 24-Leads, Body 10x10mm; Pitch 1.27mm, Gullwing Leadform, IPC Medium Density)
footprint W24B_L (CQFP, 24-Leads, Body 10x10mm; Pitch 1.27mm, Gullwing Leadform, IPC High Density)
footprint W24B_M (CQFP, 24-Leads, Body 10x10mm; Pitch 1.27mm, Gullwing Leadform, IPC Low Density)
3D model 100390-W24B (100-Pin Ceramic Quad Flat Pack 1.27 mm Pitch)
pins: 1 ~{D}1 (in), 2 D1 (in), 3 D0 (in), 4 ~{D}0 (in), 5 Q0 (hiz), 6 Q1 (hiz), 7 Q2 (hiz), 8 TTLVCC (power), 9 GND (power), 10 GND (power), 11 Q3 (hiz), 12 Q4 (hiz), 13 Q5 (hiz), 14 ~{D}5 (in), 15 D5 (in), 16 ~{D}4 (in), 17 D4 (in), 18 ~{D}3 (in), 19 D3 (in), 20 VBB (out), 21 ECLVCC (power), 22 ~{OE} (in), 23 ~{D}2 (in), 24 D2 (in)

## 100390PC
designator U?
Low Power Single Supply Hex ECL-to-TTL Translator; Published: 15-Apr-2002; LatestRevisionDate: 06-Jun-2005; LatestRevisionNote: Stylized 3D Model Added.; DatasheetVersion: Jul-1993; PackageVersion: 1992; PackageReference: N24E; Publisher: Altium Limited; PackageDescription: DIP; 24 Leads; Row Spacing 10.16 mm; Pitch 2.54 mm; ComponentLink1Description: Manufacturer Link; ComponentLink1URL: http://www.national.com/; ComponentLink2Description: Datasheet; ComponentLink2URL: http://www.fairchildsemi.com/ds/10/100390.pdf
footprint N24E (DIP; 24 Leads; Row Spacing 10.16 mm; Pitch 2.54 mm)
3D model J24E (DIP; 24 Leads; Row Spacing 10.16 mm; Pitch 2.54 mm)
pins: 1 ~{D}0 (in), 2 Q0 (hiz), 3 Q1 (hiz), 4 Q2 (hiz), 5 TTLVCC (power), 6 GND (power), 7 GND (power), 8 Q3 (hiz), 9 Q4 (hiz), 10 Q5 (hiz), 11 ~{D}5 (in), 12 D5 (in), 13 ~{D}4 (in), 14 D4 (in), 15 ~{D}3 (in), 16 D3 (in), 17 VBB (out), 18 ECLVCC (power), 19 ~{OE} (in), 20 ~{D}2 (in), 21 D2 (in), 22 ~{D}1 (in), 23 D1 (in), 24 D0 (in)

## 100390QC
designator U?
Low Power Single Supply Hex ECL-to-TTL Translator; Published: 15-Apr-2002; LatestRevisionDate: 13-Apr-2006; LatestRevisionNote: IPC-7351 Footprint Added.; DatasheetVersion: Jul-1993; PackageVersion: 2000; PackageReference: V28A; Publisher: Altium Limited; PackageDescription: 28-Pin Leaded Chip Carrier 1.27 mm Pitch; Code_IPC: PLCC-28; ComponentLink1Description: Manufacturer Link; ComponentLink1URL: http://www.national.com/; ComponentLink2Description: Datasheet; ComponentLink2URL: http://www.fairchildsemi.com/ds/10/100390.pdf
footprint V28A_N (Leaded Chip Carrier, 28-Leads, Body 11.5x11.5mm, Pitch 1.27mm, IPC Medium Density)
footprint V28A_L (Leaded Chip Carrier, 28-Leads, Body 11.5x11.5mm, Pitch 1.27mm, IPC High Density)
footprint V28A_M (Leaded Chip Carrier, 28-Leads, Body 11.5x11.5mm, Pitch 1.27mm, IPC Low Density)
3D model 100390-V28A (28-Pin Leaded Chip Carrier 1.27 mm Pitch)
pins: 1 GND (power), 2 GND (power), 3 Q3 (hiz), 4 Q4 (hiz), 5 Q5 (hiz), 6 ~{D}5 (in), 7 D5 (in), 8 GND (power), 9 ~{D}4 (in), 10 D4 (in), 11 ~{D}3 (in), 12 D3 (in), 13 VBB (out), 14 ECLVCC (power), 15 GND (power), 16 ~{OE} (in), 17 ~{D}2 (in), 18 D2 (in), 19 ~{D}1 (in), 20 D1 (in), 21 D0 (in), 22 GND (power), 23 ~{D}0 (in), 24 Q0 (hiz), 25 Q1 (hiz), 26 Q2 (hiz), 27 TTLVCC (power), 28 GND (power)

## 100390SC
designator U?
Low Power Single Supply Hex ECL-to-TTL Translator; Published: 15-Apr-2002; LatestRevisionDate: 13-Apr-2006; LatestRevisionNote: IPC-7351 Footprint Added.; DatasheetVersion: Jul-1993; PackageVersion: 2000; PackageReference: M24B; Publisher: Altium Limited; PackageDescription: 24-Pin Small Outline Integrated Circuit 1.27 mm Pitch; ComponentLink1Description: Manufacturer Link; ComponentLink1URL: http://www.national.com/; ComponentLink2Description: Datasheet; ComponentLink2URL: http://www.fairchildsemi.com/ds/10/100390.pdf
footprint M24B_N (SOIC, 24-Leads, Body 15.4x7.5mm, Pitch 1.27mm, IPC Medium Density)
footprint M24B_L (SOIC, 24-Leads, Body 15.4x7.5mm, Pitch 1.27mm, IPC High Density)
footprint M24B_M (SOIC, 24-Leads, Body 15.4x7.5mm, Pitch 1.27mm, IPC Low Density)
3D model M24B (24-Pin Small Outline Integrated Circuit 1.27 mm Pitch)
pins: 1 ~{D}0 (in), 2 Q0 (hiz), 3 Q1 (hiz), 4 Q2 (hiz), 5 TTLVCC (power), 6 GND (power), 7 GND (power), 8 Q3 (hiz), 9 Q4 (hiz), 10 Q5 (hiz), 11 ~{D}5 (in), 12 D5 (in), 13 ~{D}4 (in), 14 D4 (in), 15 ~{D}3 (in), 16 D3 (in), 17 VBB (out), 18 ECLVCC (power), 19 ~{OE} (in), 20 ~{D}2 (in), 21 D2 (in), 22 ~{D}1 (in), 23 D1 (in), 24 D0 (in)

## 100391PC
designator U?
Low Power Single Supply Hex TTL-TO-ECL Translator; Published: 15-Apr-2002; LatestRevisionDate: 06-Jun-2005; LatestRevisionNote: Stylized 3D Model Added.; DatasheetVersion: 1992; PackageVersion: 1992; PackageReference: N24E; Publisher: Altium Limited; PackageDescription: DIP; 24 Leads; Row Spacing 10.16 mm; Pitch 2.54 mm; ComponentLink1Description: Manufacturer Link; ComponentLink1URL: http://www.national.com/; ComponentLink2Description: Datasheet; ComponentLink2URL: http://www.fairchildsemi.com/ds/10/100391.pdf
footprint N24E (DIP; 24 Leads; Row Spacing 10.16 mm; Pitch 2.54 mm)
3D model J24E (DIP; 24 Leads; Row Spacing 10.16 mm; Pitch 2.54 mm)
pins: 1 ~{Q}5 (out), 2 Q4 (out), 3 ~{Q}4 (out), 4 Q3 (out), 5 ~{Q}3 (out), 6 VCC (power), 7 VCCA (power), 8 ~{Q}2 (out), 9 Q2 (out), 10 ~{Q}1 (out), 11 Q1 (out), 12 ~{Q}0 (out), 13 Q0 (out), 14 D0 (in), 15 D1 (in), 16 D2 (in), 17 GNDTTL (power), 18 GNDECL (power), 19 GNDECL (power), 20 E (in), 21 D3 (in), 22 D4 (in), 23 D5 (in), 24 Q5 (out)

## 100391QC
designator U?
Low Power Single Supply Hex TTL-to-ECL Translator; Published: 15-Apr-2002; LatestRevisionDate: 13-Apr-2006; LatestRevisionNote: IPC-7351 Footprint Added.; DatasheetVersion: 1992; PackageVersion: 2000; PackageReference: V28A; Publisher: Altium Limited; PackageDescription: 28-Pin Leaded Chip Carrier 1.27 mm Pitch; Code_IPC: PLCC-28; ComponentLink1Description: Manufacturer Link; ComponentLink1URL: http://www.national.com/; ComponentLink2Description: Datasheet; ComponentLink2URL: http://www.fairchildsemi.com/ds/10/100391.pdf
footprint V28A_N (Leaded Chip Carrier, 28-Leads, Body 11.5x11.5mm, Pitch 1.27mm, IPC Medium Density)
footprint V28A_L (Leaded Chip Carrier, 28-Leads, Body 11.5x11.5mm, Pitch 1.27mm, IPC High Density)
footprint V28A_M (Leaded Chip Carrier, 28-Leads, Body 11.5x11.5mm, Pitch 1.27mm, IPC Low Density)
3D model 100391-V28A (28-Pin Leaded Chip Carrier 1.27 mm Pitch)
pins: 1 VCC (power), 2 VCCA (power), 3 ~{Q}2 (out), 4 Q2 (out), 5 ~{Q}1 (out), 6 Q1 (out), 7 ~{Q}0 (out), 8 GNDS (power), 9 Q0 (out), 10 D0 (in), 11 D1 (in), 12 D2 (in), 13 GNDTTL (power), 14 GNDECL (power), 15 GNDS (power), 16 GNDECL (power), 17 E (in), 18 D3 (in), 19 D4 (in), 20 D5 (in), 21 Q5 (out), 22 GNDS (power), 23 ~{Q}5 (out), 24 Q4 (out), 25 ~{Q}4 (out), 26 Q3 (out), 27 ~{Q}3 (out), 28 VCC (power)

## 100391QI
designator U?
Low Power Single Supply Hex TTL-to-ECL Translator; Published: 15-Apr-2002; LatestRevisionDate: 13-Apr-2006; LatestRevisionNote: IPC-7351 Footprint Added.; DatasheetVersion: 1992; PackageVersion: 2000; PackageReference: V28A; Publisher: Altium Limited; PackageDescription: 28-Pin Leaded Chip Carrier 1.27 mm Pitch; Code_IPC: PLCC-28; ComponentLink1Description: Manufacturer Link; ComponentLink1URL: http://www.national.com/; ComponentLink2Description: Datasheet; ComponentLink2URL: http://www.fairchildsemi.com/ds/10/100391.pdf
footprint V28A_N (Leaded Chip Carrier, 28-Leads, Body 11.5x11.5mm, Pitch 1.27mm, IPC Medium Density)
footprint V28A_L (Leaded Chip Carrier, 28-Leads, Body 11.5x11.5mm, Pitch 1.27mm, IPC High Density)
footprint V28A_M (Leaded Chip Carrier, 28-Leads, Body 11.5x11.5mm, Pitch 1.27mm, IPC Low Density)
3D model 100391-V28A (28-Pin Leaded Chip Carrier 1.27 mm Pitch)
pins: 1 VCC (power), 2 VCCA (power), 3 ~{Q}2 (out), 4 Q2 (out), 5 ~{Q}1 (out), 6 Q1 (out), 7 ~{Q}0 (out), 8 GNDS (power), 9 Q0 (out), 10 D0 (in), 11 D1 (in), 12 D2 (in), 13 GNDTTL (power), 14 GNDECL (power), 15 GNDS (power), 16 GNDECL (power), 17 E (in), 18 D3 (in), 19 D4 (in), 20 D5 (in), 21 Q5 (out), 22 GNDS (power), 23 ~{Q}5 (out), 24 Q4 (out), 25 ~{Q}4 (out), 26 Q3 (out), 27 ~{Q}3 (out), 28 VCC (power)

## 100391SC
designator U?
Low Power Single Supply Hex TTL-TO-ECL Translator; Published: 15-Apr-2002; LatestRevisionDate: 13-Apr-2006; LatestRevisionNote: IPC-7351 Footprint Added.; DatasheetVersion: 1992; PackageVersion: 2000; PackageReference: M24B; Publisher: Altium Limited; PackageDescription: 24-Pin Small Outline Integrated Circuit 1.27 mm Pitch; ComponentLink1Description: Manufacturer Link; ComponentLink1URL: http://www.national.com/; ComponentLink2Description: Datasheet; ComponentLink2URL: http://www.fairchildsemi.com/ds/10/100391.pdf
footprint M24B_N (SOIC, 24-Leads, Body 15.4x7.5mm, Pitch 1.27mm, IPC Medium Density)
footprint M24B_L (SOIC, 24-Leads, Body 15.4x7.5mm, Pitch 1.27mm, IPC High Density)
footprint M24B_M (SOIC, 24-Leads, Body 15.4x7.5mm, Pitch 1.27mm, IPC Low Density)
3D model M24B (24-Pin Small Outline Integrated Circuit 1.27 mm Pitch)
pins: 1 ~{Q}5 (out), 2 Q4 (out), 3 ~{Q}4 (out), 4 Q3 (out), 5 ~{Q}3 (out), 6 VCC (power), 7 VCCA (power), 8 ~{Q}2 (out), 9 Q2 (out), 10 ~{Q}1 (out), 11 Q1 (out), 12 ~{Q}0 (out), 13 Q0 (out), 14 D0 (in), 15 D1 (in), 16 D2 (in), 17 GNDTTL (power), 18 GNDECL (power), 19 GNDECL (power), 20 E (in), 21 D3 (in), 22 D4 (in), 23 D5 (in), 24 Q5 (out)

## DH0034CD
designator U?
High Speed Dual Level Translator; Note: Pins 1, 4, 8 and 11 are NC and not drawn.; Published: 15-Apr-2002; LatestRevisionDate: 06-Jun-2005; LatestRevisionNote: Stylized 3D Model Added.; DatasheetVersion: 1995; PackageReference: D14D; Publisher: Altium Limited; PackageDescription: DIP; 14 Leads; Row Spacing 7.62 mm; Pitch 2.54 mm; ComponentLink1Description: Manufacturer Link; ComponentLink1URL: http://www.national.com/
footprint D14D (DIP; 14 Leads; Row Spacing 7.62 mm; Pitch 2.54 mm)
3D model D14D (DIP; 14 Leads; Row Spacing 7.62 mm; Pitch 2.54 mm)
pins on every part: 7 GND (power) hidden to GND, 14 VCC (power) hidden to VCC
part A pins: 2 A (in), 3 B (in), 5 V- (power) hidden to V-, 6 OUT (oc)
part B pins: 9 OUT (oc), 10 V- (power) hidden to V-, 12 B (in), 13 A (in)

## DH0034D
designator U?
High Speed Dual Level Translator; Note: Pins 1, 4, 8 and 11 are NC and not drawn.; Published: 15-Apr-2002; LatestRevisionDate: 06-Jun-2005; LatestRevisionNote: Stylized 3D Model Added.; DatasheetVersion: 1993; PackageReference: D14D; Publisher: Altium Limited; PackageDescription: DIP; 14 Leads; Row Spacing 7.62 mm; Pitch 2.54 mm; ComponentLink1Description: Manufacturer Link; ComponentLink1URL: http://www.national.com/
footprint D14D (DIP; 14 Leads; Row Spacing 7.62 mm; Pitch 2.54 mm)
3D model D14D (DIP; 14 Leads; Row Spacing 7.62 mm; Pitch 2.54 mm)
pins on every part: 7 GND (power) hidden to GND, 14 VCC (power) hidden to VCC
part A pins: 2 A (in), 3 B (in), 5 V- (power) hidden to V-, 6 OUT (oc)
part B pins: 9 OUT (oc), 10 V- (power) hidden to V-, 12 B (in), 13 A (in)

## DH0034D-MIL
designator U?
High Speed Dual Level Translator; Note: Pins 1, 4, 8 and 11 are NC and not drawn.; Published: 15-Apr-2002; LatestRevisionDate: 06-Jun-2005; LatestRevisionNote: Stylized 3D Model Added.; DatasheetVersion: 1995; PackageReference: D14D; Publisher: Altium Limited; PackageDescription: DIP; 14 Leads; Row Spacing 7.62 mm; Pitch 2.54 mm; ComponentLink1Description: Manufacturer Link; ComponentLink1URL: http://www.national.com/
footprint D14D (DIP; 14 Leads; Row Spacing 7.62 mm; Pitch 2.54 mm)
3D model D14D (DIP; 14 Leads; Row Spacing 7.62 mm; Pitch 2.54 mm)
pins on every part: 7 GND (power) hidden to GND, 14 VCC (power) hidden to VCC
part A pins: 2 A (in), 3 B (in), 5 V- (power) hidden to V-, 6 OUT (oc)
part B pins: 9 OUT (oc), 10 V- (power) hidden to V-, 12 B (in), 13 A (in)

## DH0034H-MIL
designator U?
High Speed Dual Level Translator; Published: 15-Apr-2002; DatasheetVersion: 1993; PackageVersion: 1995; PackageReference: H10F; Publisher: Altium Limited; PackageDescription: Can; 10 Leads; Pin Circle Dia. 5.84 mm; Lead Dia. 0.48 mm (max); ComponentLink1Description: Manufacturer Link; ComponentLink1URL: http://www.national.com/
footprint H10F (Can; 10 Leads; Pin Circle Dia. 5.84 mm; Lead Dia. 0.48 mm (max))
pins on every part: 5 GND (power) hidden to GND, 10 VCC (power) hidden to VCC
part A pins: 1 A (in), 2 B (in), 3 OUT (oc), 4 V- (power) hidden to V-
part B pins: 6 V- (power) hidden to V-, 7 OUT (oc), 8 B (in), 9 A (in)

## DP8480AJ
designator U?
10k ECL to TTL Level Translator with Latch; Published: 15-Apr-2002; LatestRevisionDate: 06-Jun-2005; LatestRevisionNote: Stylized 3D Model Added.; DatasheetVersion: Apr-1990; PackageVersion: 2000; PackageReference: J16A; Publisher: Altium Limited; PackageDescription: DIP; 16 Leads; Row Spacing 7.62 mm; Pitch 2.54 mm; ComponentLink1Description: Manufacturer Link; ComponentLink1URL: http://www.national.com/; ComponentLink2Description: Datasheet; ComponentLink2URL: http://www.national.com/ds.cgi/DP/DP8480A.pdf; ComponentLink3Description: URL Link1; ComponentLink3URL: http://www.national.com/pf/DP/DP8480A.html
footprint J16A (DIP; 16 Leads; Row Spacing 7.62 mm; Pitch 2.54 mm)
3D model J16A (DIP; 16 Leads; Row Spacing 7.62 mm; Pitch 2.54 mm)
pins: 1 VEE (power), 2 D0 (in), 3 D1 (in), 4 D2 (in), 5 D3 (in), 6 D4 (in), 7 ~{STR} (in), 8 GND (power), 9 GND (power), 10 ~{CS} (in), 11 ~{Q}4 (hiz), 12 ~{Q}3 (hiz), 13 ~{Q}2 (hiz), 14 ~{Q}1 (hiz), 15 ~{Q}0 (hiz), 16 VCC (power)

## DP8480AN
designator U?
10k ECL to TTL Level Translator with Latch; Published: 15-Apr-2002; LatestRevisionDate: 06-Jun-2005; LatestRevisionNote: Stylized 3D Model Added.; DatasheetVersion: Apr-1990; PackageVersion: 2000; PackageReference: N16A; Publisher: Altium Limited; PackageDescription: DIP; 16 Leads; Row Spacing 7.62 mm; Pitch 2.54 mm; ComponentLink1Description: Manufacturer Link; ComponentLink1URL: http://www.national.com/; ComponentLink2Description: Datasheet; ComponentLink2URL: http://www.national.com/ds.cgi/DP/DP8480A.pdf; ComponentLink3Description: URL Link1; ComponentLink3URL: http://www.national.com/pf/DP/DP8480A.html
footprint N16A (DIP; 16 Leads; Row Spacing 7.62 mm; Pitch 2.54 mm)
3D model N16A (DIP; 16 Leads; Row Spacing 7.62 mm; Pitch 2.54 mm)
pins: 1 VEE (power), 2 D0 (in), 3 D1 (in), 4 D2 (in), 5 D3 (in), 6 D4 (in), 7 ~{STR} (in), 8 GND (power), 9 GND (power), 10 ~{CS} (in), 11 ~{Q}4 (hiz), 12 ~{Q}3 (hiz), 13 ~{Q}2 (hiz), 14 ~{Q}1 (hiz), 15 ~{Q}0 (hiz), 16 VCC (power)

## DP8481F
designator U?
TTL to 10k ECL Level Translator with Latch; Published: 15-Apr-2002; LatestRevisionDate: 06-Jun-2005; LatestRevisionNote: Stylized 3D Model Added.; DatasheetVersion: Jun-1986; PackageVersion: 1990; PackageReference: F16B; Publisher: Altium Limited; PackageDescription: DFP; 16 Leads; Body 10.7 x 7.2 mm (LxW max); Pitch 1.27 mm; ComponentLink1Description: Manufacturer Link; ComponentLink1URL: http://www.national.com/; ComponentLink2Description: Datasheet; ComponentLink2URL: http://www.national.com/ds.cgi/DP/DP8481.pdf; ComponentLink3Description: URL Link1; ComponentLink3URL: http://www.national.com/pf/DP/DP8481.html
footprint F16B (DFP; 16 Leads; Body 10.7 x 7.2 mm (LxW max); Pitch 1.27 mm)
3D model F16B (DFP; 16 Leads; Body 10.7 x 7.2 mm (LxW max); Pitch 1.27 mm)
pins: 1 VEE (power), 2 ~{Q}0 (hiz), 3 ~{Q}1 (hiz), 4 ~{Q}2 (hiz), 5 ~{Q}3 (hiz), 6 ~{Q}4 (hiz), 7 ~{CS} (in), 8 GND (power), 9 GND (power), 10 ~{STR} (in), 11 D4 (in), 12 D3 (in), 13 D2 (in), 14 D1 (in), 15 D0 (in), 16 VCC (power)

## DP8481J
designator U?
TTL to 10k ECL Level Translator with Latch; Published: 15-Apr-2002; LatestRevisionDate: 06-Jun-2005; LatestRevisionNote: Stylized 3D Model Added.; DatasheetVersion: Jun-1986; PackageVersion: 2000; PackageReference: J16A; Publisher: Altium Limited; PackageDescription: DIP; 16 Leads; Row Spacing 7.62 mm; Pitch 2.54 mm; ComponentLink1Description: Manufacturer Link; ComponentLink1URL: http://www.national.com/; ComponentLink2Description: Datasheet; ComponentLink2URL: http://www.national.com/ds.cgi/DP/DP8481.pdf; ComponentLink3Description: URL Link1; ComponentLink3URL: http://www.national.com/pf/DP/DP8481.html
footprint J16A (DIP; 16 Leads; Row Spacing 7.62 mm; Pitch 2.54 mm)
3D model J16A (DIP; 16 Leads; Row Spacing 7.62 mm; Pitch 2.54 mm)
pins: 1 VEE (power), 2 ~{Q}0 (hiz), 3 ~{Q}1 (hiz), 4 ~{Q}2 (hiz), 5 ~{Q}3 (hiz), 6 ~{Q}4 (hiz), 7 ~{CS} (in), 8 GND (power), 9 GND (power), 10 ~{STR} (in), 11 D4 (in), 12 D3 (in), 13 D2 (in), 14 D1 (in), 15 D0 (in), 16 VCC (power)

## DP8481N
designator U?
TTL to 10k ECL Level Translator with Latch; Published: 15-Apr-2002; LatestRevisionDate: 06-Jun-2005; LatestRevisionNote: Stylized 3D Model Added.; DatasheetVersion: Jun-1986; PackageVersion: 2000; PackageReference: N16A; Publisher: Altium Limited; PackageDescription: DIP; 16 Leads; Row Spacing 7.62 mm; Pitch 2.54 mm; ComponentLink1Description: Manufacturer Link; ComponentLink1URL: http://www.national.com/; ComponentLink2Description: Datasheet; ComponentLink2URL: http://www.national.com/ds.cgi/DP/DP8481.pdf; ComponentLink3Description: URL Link1; ComponentLink3URL: http://www.national.com/pf/DP/DP8481.html
footprint N16A (DIP; 16 Leads; Row Spacing 7.62 mm; Pitch 2.54 mm)
3D model N16A (DIP; 16 Leads; Row Spacing 7.62 mm; Pitch 2.54 mm)
pins: 1 VEE (power), 2 ~{Q}0 (hiz), 3 ~{Q}1 (hiz), 4 ~{Q}2 (hiz), 5 ~{Q}3 (hiz), 6 ~{Q}4 (hiz), 7 ~{CS} (in), 8 GND (power), 9 GND (power), 10 ~{STR} (in), 11 D4 (in), 12 D3 (in), 13 D2 (in), 14 D1 (in), 15 D0 (in), 16 VCC (power)